# EAGLE library part DIP_SWITCH (library Custom_old)
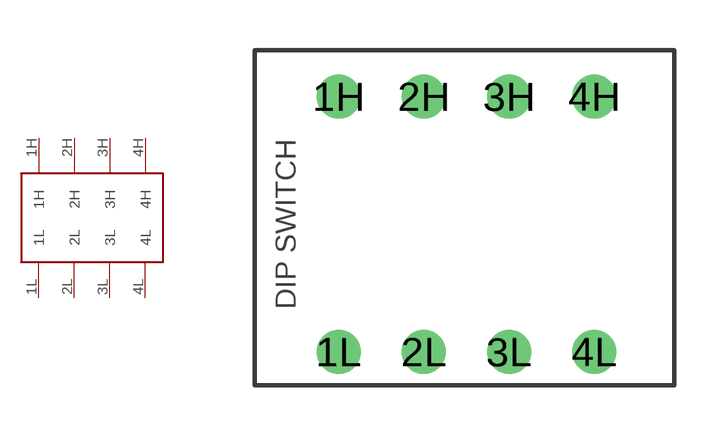
[diagram p11: symbol with the pads of DIPSWITCH4; footprint DIPSWITCH4]

Designator prefix -

## DIP_SWITCH  [DIPSWITCH4]
1H  1H
1L  1L
2H  2H
2L  2L
3H  3H
3L  3L
4H  4H
4L  4L

## Footprint DIPSWITCH4 (pad centres in mm)
drill 0.8: 1H 0,7.62; 1L 0,0; 2H 2.54,7.62; 2L 2.54,0; 3H 5.08,7.62; 3L 5.08,0; 4H 7.62,7.62; 4L 7.62,0